# Altium integrated library Motorola DSP 16-Bit.IntLib: 19 symbols (part 2 of 2)
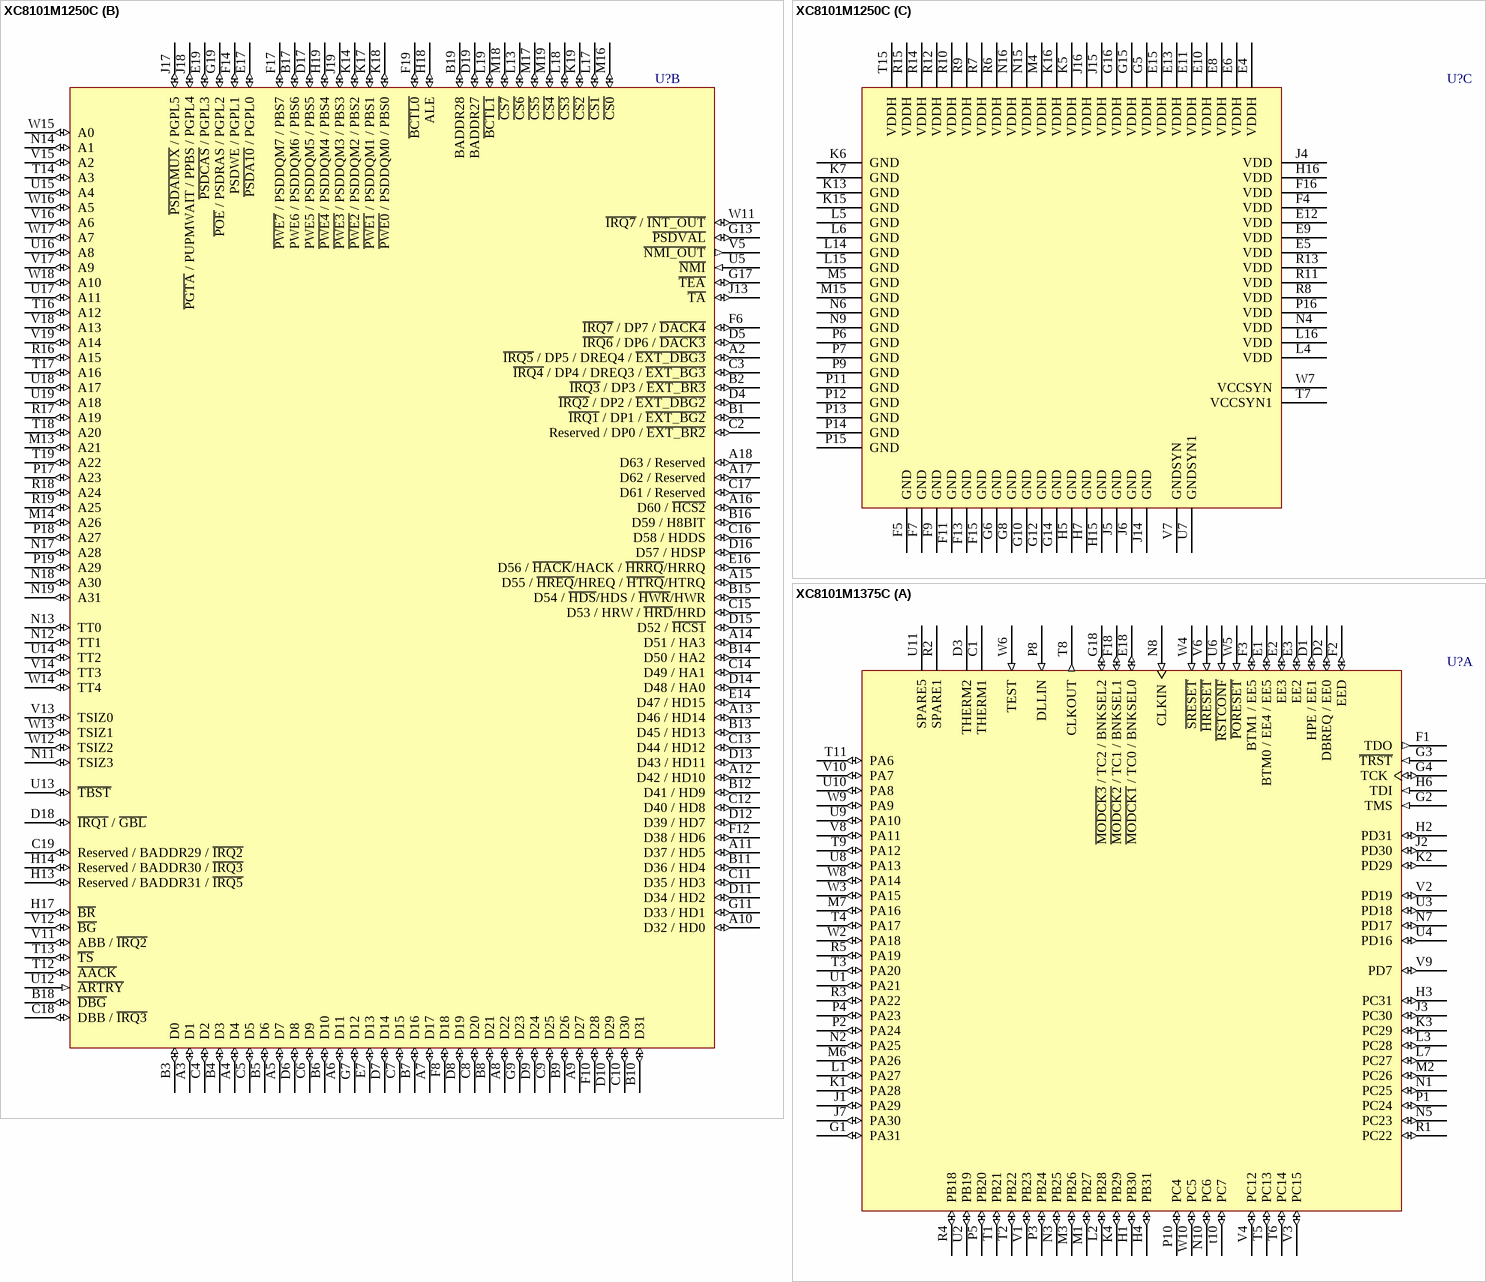
[diagram p12: symbols XC8101M1250C to XC8101M1375C]

## XC8101M1250C
designator U?
MSC8100 Family Very High Performance 16-Bit Fixed Point DSP; PinDescriptions: Alternate pin usages may be listed in Pin Description fields.; Published: 21-Mar-2003; LatestRevisionDate: 13-Apr-2006; LatestRevisionNote: IPC-7351 Footprint Added.; DatasheetVersion: Rev. 4, Aug-2002; PackageVersion: rev4, Aug-2002; PackageReference: 1169-01; Publisher: Altium Limited; PackageDescription: 332-Ball FC-P Ball Grid Array 0.8 mm Pitch; ComponentLink1Description: Manufacturer Link; ComponentLink1URL: http://www.motorola.com/
footprint 1169-01 (BGA, 332-Leads, Body 17x17mm, Pitch 0.8mm)
3D model XC8101-1169-01 (332-Ball FC-P Ball Grid Array 0.8 mm Pitch)
part A pins: C1 THERM1, D1 HPE / EE1 (io), D2 DBREQ / EE0 (io), D3 THERM2, E1 BTM0 / EE4 / EE5 (io), E2 EE3 (io), E3 EE2 (io), E18 ~{MODCK1} / TC0 / BNKSEL0 (io), F1 TDO (out), F2 EED (io), F3 BTM1 / EE5 (io), F18 ~{MODCK2} / TC1 / BNKSEL1 (io), G1 PA31 (io) "/ FCC1:UTOPIA8:TXENB / FCC1:MII:COL", G2 TMS (in), G3 ~{TRST} (in), G4 TCK (io), G18 ~{MODCK3} / TC2 / BNKSEL2 (io), H1 PB30 (io) "/ FCC2:MII:RX_DV / SCC2:TXD / TDBM2:L1RXD", H2 PD31 (io) "/ SCC1:RXD / DRACK1 / DONE1", H3 PC31 (io) "/ BRG1O / CLK1 / TGATE1", H4 PB31 (io) "/ FCC2:MII:TX_ER / SCC2:RXD / TDMB2:L1TXD", H6 TDI (in), J1 PA29 (io) "/ FCC1:UTOPIA8:TXSOC / FCC1:MII:TX_ER", J2 PD30 (io) "/ SCC1:TXD / DMA:DRACK2/DONE2", J3 PC30 (io) "/ EXT1 / BRG2O / CLK2 / TOUT1", J7 PA30 (io) "/ FCC1:UTOPIA8:TXCLAV / FCC1:UTOPIA8:TXCLAV0 / FCC1:MII:CRS / FCC1:HDLC and transparent:RTS", K1 PA28 (io) "/ FCC1:UTOPIA8:RXENB / FCC1:MII:TX_EN", K2 PD29 (io) "/ FCC1:UTOPIA8:RXADDR3 / FCC1:UTOPIA8:RXCLAV2 / SCC1:RTS/TENA", K3 PC29 (io) "/ SCC1:CTS / SCC1:CLSN / BRG3O / CLK3 / TIN2", K4 PB29 (io) "/ FCC2:MII:TX_EN / TDMB2:L1RSYNC", L1 PA27 (io) "/ FCC1:UTOPIA8:RXSOC / FCC1:MII:RX_DV", L2 PB28 (io) "/ FCC2:RX_ER / FCC2:HDLC:RTS / SCC2:RTS/TENA / TDMB2:L1TSYNC", L3 PC28 (io) "/ SCC2:CTS/CLSN / BRG4O / CLK4 / TIN1/TOUT2", L7 PC27 (io) "/ CLK5 / BRG5O / TGATE2", M1 PB27 (io) "/ FCC2:MII:COL / TDMC2:L1TXD", M2 PC26 (io) "/ TMCLK / BRG6O / CLK6 / TOUT3", M3 PB26 (io) "/ FCC2:MII:CRS / TDMC2:L1RXD", M6 PA26 (io) "/ FCC1:UTOPIA8:RXCLAV / FCC1:UTOPIA8:RXCLAV0 / FCC1:MII:RX_ER", M7 PA16 (io) "/ FCC1:UTOPIA8:RXD6 / FCC1:MII and HDLC nibble:RXD1", N1 PC25 (io) "/ DMA:DACK2 / BRG7O / CLK7 / TIN4", N2 PA25 (io) "/ FCC1:UTOPIA8:TXD0 / SDMA:MSNUM0", N3 PB25 (io) "/ FCC2:MII and HDLC nibble:TXD3 / TDMA1:nibble:L1TXD3 / TDMC2:L1TSYNC/GRANT", N5 PC23 (io) "/ EXT2 / DMA:DACK1 / CLK9", N7 PD17 (io) "/ FCC1:UTOPIA8:RXPRTY / SPI:SPIMOSI / BRG2O", N8 CLKIN (in), N10 PC6 (io) "/ FCC1:UTOPIA8:RXADDR2 / FCC1:UTOPIA8:RXADDR2/RXCLAV1 / FCC1:CD / SI2:LIST2", P1 PC24 (io) "/ DMA:DREQ2 / BRG8O / CLK8 / TIN3/TOUT4", P2 PA24 (io) "/ FCC1:UTOPIA8:TXD1 / SDMA:MSNUM1", P3 PB24 (io) "/ FCC2:MII and HDLC nibble:TXD3 / TDMA1:nibble:L1RXD3 / TDMC2:L1RSYNC", P4 PA23 (io) "/ FCC1:UTOPIA8:TXD2", P5 PB20 (io) "/ FCC2:MII and HDLC nibble:RXD1 / TDMA1:nibble:L1TXD1 / TDMD2:L1RSYNC", P8 DLLIN (in), P10 PC4 (io) "/ FCC2:CD / SMC1:SMRXD / SI2:LIST4", R1 PC22 (io) "/ SI1:LIST1 / DREQ1 / CLK10", R2 SPARE1, R3 PA22 (io) "/ FCC1:UTOPIA8:TXD3", R4 PB18 (io) "/ FCC2:MII and HDLC nibble:RXD3 / I2C:SCL", R5 PA19 (io) "/ FCC1:UTOPIA8:TXD6 / FCC1:MII and HDLC nibble:TXD1", T1 PB21 (io) "/ FCC2:MII and HDLC nibble:RXD0 / FCC2:transparent and HDLC serial:RXD /TDMA1:nibble:L1TXD2 / TDMD2:L1TSYNC/GRANT", T2 PB22 (io) "/ FCC2:MII and HDLC nibble TXD0 / FCC2:transparent and HDLC serial TXD /TDMA1:nibble L1RXD1 / TDMD2:L1RXD", T3 PA20 (io) "/ FCC1:UTOPIA8 TXD5 / FCC1:MII and HDLC nibble TXD2", T4 PA17 (io) "/ FCC1:UTOPIA8 RXD7 / FCC1:MII and HDLC nibble RXD0 / FCC1:transparent and HDLC serial RXD", T5 PC13 (io) "/ FCC1:UTOPIA8:TXADDR1 / SCC2:CTS/CLSN / SI1:LIST4", T6 PC14 (io) "/ FCC1:UTOPIA8:RXADDR0 / SCC1:CD/RENA / SI1:LIST2", T8 CLKOUT (out), T9 PA12 (io) "/ FCC1:UTOPIA8:RXD2 / SDMA:MSNUM3", t10 PC7 (io) "/ FCC1:UTOPIA8:TXADDR2 / FCC1:UTOPIA8:TXADDR2/TXCLAV1 / FCC1:CTS / SI1:LIST1", T11 PA6 (io) "/ TDMA1:L2RSYNC", U1 PA21 (io) "/ FCC1:TXD4 / FCC1:MII and HDLC nibble TXD3", U2 PB19 (io) "/ FCC2:MII and HDLC nibble RXD2 / I2C:SDA", U3 PD18 (io) "/ FCC1:UTOPIA8:RXADDR4 / FCC1:UTOPIA8:RXCLAV3 / SPI:SPICLK", U4 PD16 (io) "/ FCC1:UTOPIA8:TXPRTY / SPI:SPIMISO", U6 ~{RSTCONF} (in), U8 PA13 (io) "/ FCC1:UTOPIA8:RXD3 / SDMA:MSNUM2", U9 PA10 (io) "/ FCC1:UTOPIA8:RXD0 / SDMA:MSNUM5", U10 PA8 (io) "/ SMC2:SMRXD / TDMA1:serial L1RXD / TDMA1:nibble L1RXD0", U11 SPARE5, V1 PB23 (io) "/ FCC2:MII and HDLC nibble:TXD1 / TDMA1:nibble:L1RXD2 / TDMD2:L1TXD", V2 PD19 (io) "/ FCC1:UTOPIA8:TXADDR4 / FCC1:UTOPIA:TXCLAV3 / SPI:SPISEL / BRG1O", V3 PC15 (io) "/ FCC1:UTOPIA8:TXADDR0 / SCC1:CTS/CLSN / SMC2:SMTXD", V4 PC12 (io) "/ FCC1:UTOPIA8:RXADDR1 / SCC2:CD/RENA / SI1:LIST3", V6 ~{HRESET} (in), V8 PA11 (io) "/ FCC1:UTOPIA8:RXD1 / SDMA:MSNUM4", V9 PD7 (io) "/ FCC1:UTOPIA8:TXADDR3 / FCC1:UTOPIA8:TXCLAV2 / SMC1:SMSYN", V10 PA7 (io) "/ SMC2:SMSYN / TDMA1:L1TSYNC/GRANT", W2 PA18 (io) "/ FCC1:UTOPIA8:TXD7 / FCC1:MII and HDLC nibble:TXD0 / FCC1:transparent and HDLC serial:TXD", W3 PA15 (io) "/ FCC1:UTOPIA8:RXD5 / FCC1:MII and HDLC nibble:RXD2", W4 ~{SRESET} (in), W5 ~{PORESET} (in), W6 TEST (in), W8 PA14 (io) "/ FCC1:UTOPIA8 RXD4 / FCC1:MII and HDLC nibble:RXD3", W9 PA9 (io) "/ SMC2:SMTXD / TDMA1:serial:L1TXD /TDMA1:nibble:L1TXD0", W10 PC5 (io) "/ FCC2:CTS / SMC1:SMTXD / SI2:LIST3"
part B pins: A2 ~{IRQ5} / DP5 / DREQ4 / ~{EXT_DBG3} (io), A3 D1 (io), A4 D4 (io), A5 D7 (io), A6 D11 (io), A7 D17 (io), A8 D22 (io), A9 D27 (io), A10 D32 / HD0 (io), A11 D37 / HD5 (io), A12 D42 / HD10 (io), A13 D46 / HD14 (io), A14 D51 / HA3 (io), A15 D55 / ~{HREQ}/HREQ / ~{HTRQ}/HTRQ (io), A16 D60 / ~{HCS2} (io), A17 D62 / Reserved (io), A18 D63 / Reserved (io), B1 ~{IRQ1} / DP1 / ~{EXT_BG2} (io), B2 ~{IRQ3} / DP3 / ~{EXT_BR3} (io), B3 D0 (io), B4 D3 (io), B5 D6 (io), B6 D10 (io), B7 D16 (io), B8 D21 (io), B9 D26 (io), B10 D31 (io), B11 D36 / HD4 (io), B12 D41 / HD9 (io), B13 D45 / HD13 (io), B14 D50 / HA2 (io), B15 D54 / ~{HDS}/HDS / ~{HWR}/HWR (io), B16 D59 / H8BIT (io), B17 PWE6 / PSDDQM6 / PBS6 (io), B18 ~{DBG} (io), B19 BADDR28 (io), C2 Reserved / DP0 / ~{EXT_BR2} (io), C3 ~{IRQ4} / DP4 / DREQ3 / ~{EXT_BG3} (io), C4 D2 (io), C5 D5 (io), C6 D9 (io), C7 D15 (io), C8 D20 (io), C9 D25 (io), C10 D30 (io), C11 D35 / HD3 (io), C12 D40 / HD8 (io), C13 D44 / HD12 (io), C14 D49 / HA1 (io), C15 D53 / HRW / ~{HRD}/HRD (io), C16 D58 / HDDS (io), C17 D61 / Reserved (io), C18 DBB / ~{IRQ3} (io), C19 Reserved / BADDR29 / ~{IRQ2} (io), D4 ~{IRQ2} / DP2 / ~{EXT_DBG2} (io), D5 ~{IRQ6} / DP6 / ~{DACK3} (io), D6 D8 (io), D7 D14 (io), D8 D19 (io), D9 D24 (io), D10 D29 (io), D11 D34 / HD2 (io), D12 D39 / HD7 (io), D13 D43 / HD11 (io), D14 D48 / HA0 (io), D15 D52 / ~{HCS1} (io), D16 D57 / HDSP (io), D17 PWE5 / PSDDQM5 / PBS5 (io), D18 ~{IRQ1} / ~{GBL} (io), D19 BADDR27 (io), E7 D13 (io), E14 D47 / HD15 (io), E16 D56 / ~{HACK}/HACK / ~{HRRQ}/HRRQ (io), E17 ~{PSDA10} / PGPL0 (io), E19 ~{PSDCAS} / PGPL3 (io), F6 ~{IRQ7} / DP7 / ~{DACK4} (io), F8 D18 (io), F10 D28 (io), F12 D38 / HD6 (io), F14 PSDWE / PGPL1 (io), F17 ~{PWE7} / PSDDQM7 / PBS7 (io), F19 ~{BCTL0} (io), G7 D12 (io), G9 D23 (io), G11 D33 / HD1 (io), G13 ~{PSDVAL} (io), G17 ~{TEA} (io), G19 ~{POE} / PSDRAS / PGPL2 (io), H13 Reserved / BADDR31 / ~{IRQ5} (io), H14 Reserved / BADDR30 / ~{IRQ3} (io), H17 ~{BR} (io), H18 ALE (io), H19 ~{PWE4} / PSDDQM4 / PBS4 (io), J13 ~{TA} (io), J17 ~{PSDAMUX} / PGPL5 (io), J18 ~{PGTA} / PUPMWAIT / PPBS / PGPL4 (io), J19 ~{PWE3} / PSDDQM3 / PBS3 (io), K14 ~{PWE2} / PSDDQM2 / PBS2 (io), K17 ~{PWE1} / PSDDQM1 / PBS1 (io), K18 ~{PWE0} / PSDDQM0 / PBS0 (io), K19 ~{CS2} (io), L13 ~{CS6} (io), L17 ~{CS1} (io), L18 ~{CS3} (io), L19 ~{BCTL1} (io), M13 A21 (io), M14 A26 (io), M16 ~{CS0} (io), M17 ~{CS5} (io), M18 ~{CS7} (io), M19 ~{CS4} (io), N11 TSIZ3 (io), N12 TT1 (io), N13 TT0 (io), N14 A1 (io), N17 A28 (io), N18 A30 (io), N19 A31 (io), P17 A23 (io), P18 A27 (io), P19 A29 (io), R16 A15 (io), R17 A19 (io), R18 A24 (io), R19 A25 (io), T12 ~{AACK} (io), T13 ~{TS} (io), T14 A3 (io), T16 A12 (io), T17 A16 (io), T18 A20 (io), T19 A22 (io), U5 ~{NMI} (in), U12 ~{ARTRY} (in), U13 ~{TBST} (io), U14 TT2 (io), U15 A4 (io), U16 A8 (io), U17 A11 (io), U18 A17 (io), U19 A18 (io), V5 ~{NMI_OUT} (out), V11 ABB / ~{IRQ2} (io), V12 ~{BG} (io), V13 TSIZ0 (io), V14 TT3 (io), V15 A2 (io), V16 A6 (io), V17 A9 (io), V18 A13 (io), V19 A14 (io), W11 ~{IRQ7} / ~{INT_OUT} (io), W12 TSIZ2 (io), W13 TSIZ1 (io), W14 TT4 (io), W15 A0 (io), W16 A5 (io), W17 A7 (io), W18 A10 (io)
part C pins: E4 VDDH (power), E5 VDD (power), E6 VDDH (power), E8 VDDH (power), E9 VDD (power), E10 VDDH (power), E11 VDDH (power), E12 VDD (power), E13 VDDH (power), E15 VDDH (power), F4 VDD (power), F5 GND (power), F7 GND (power), F9 GND (power), F11 GND (power), F13 GND (power), F15 GND (power), F16 VDD (power), G5 VDDH (power), G6 GND (power), G8 GND (power), G10 GND (power), G12 GND (power), G14 GND (power), G15 VDDH (power), G16 VDDH (power), H5 GND (power), H7 GND (power), H15 GND (power), H16 VDD (power), J4 VDD (power), J5 GND (power), J6 GND (power), J14 GND (power), J15 VDDH (power), J16 VDDH (power), K5 VDDH (power), K6 GND (power), K7 GND (power), K13 GND (power), K15 GND (power), K16 VDDH (power), L4 VDD (power), L5 GND (power), L6 GND (power), L14 GND (power), L15 GND (power), L16 VDD (power), M4 VDDH (power), M5 GND (power), M15 GND (power), N4 VDD (power), N6 GND (power), N9 GND (power), N15 VDDH (power), N16 VDDH (power), P6 GND (power), P7 GND (power), P9 GND (power), P11 GND (power), P12 GND (power), P13 GND (power), P14 GND (power), P15 GND (power), P16 VDD (power), R6 VDDH (power), R7 VDDH (power), R8 VDD (power), R9 VDDH (power), R10 VDDH (power), R11 VDD (power), R12 VDDH (power), R13 VDD (power), R14 VDDH (power), R15 VDDH (power), T7 VCCSYN1 (power), T15 VDDH (power), U7 GNDSYN1 (power), V7 GNDSYN (power), W7 VCCSYN (power)

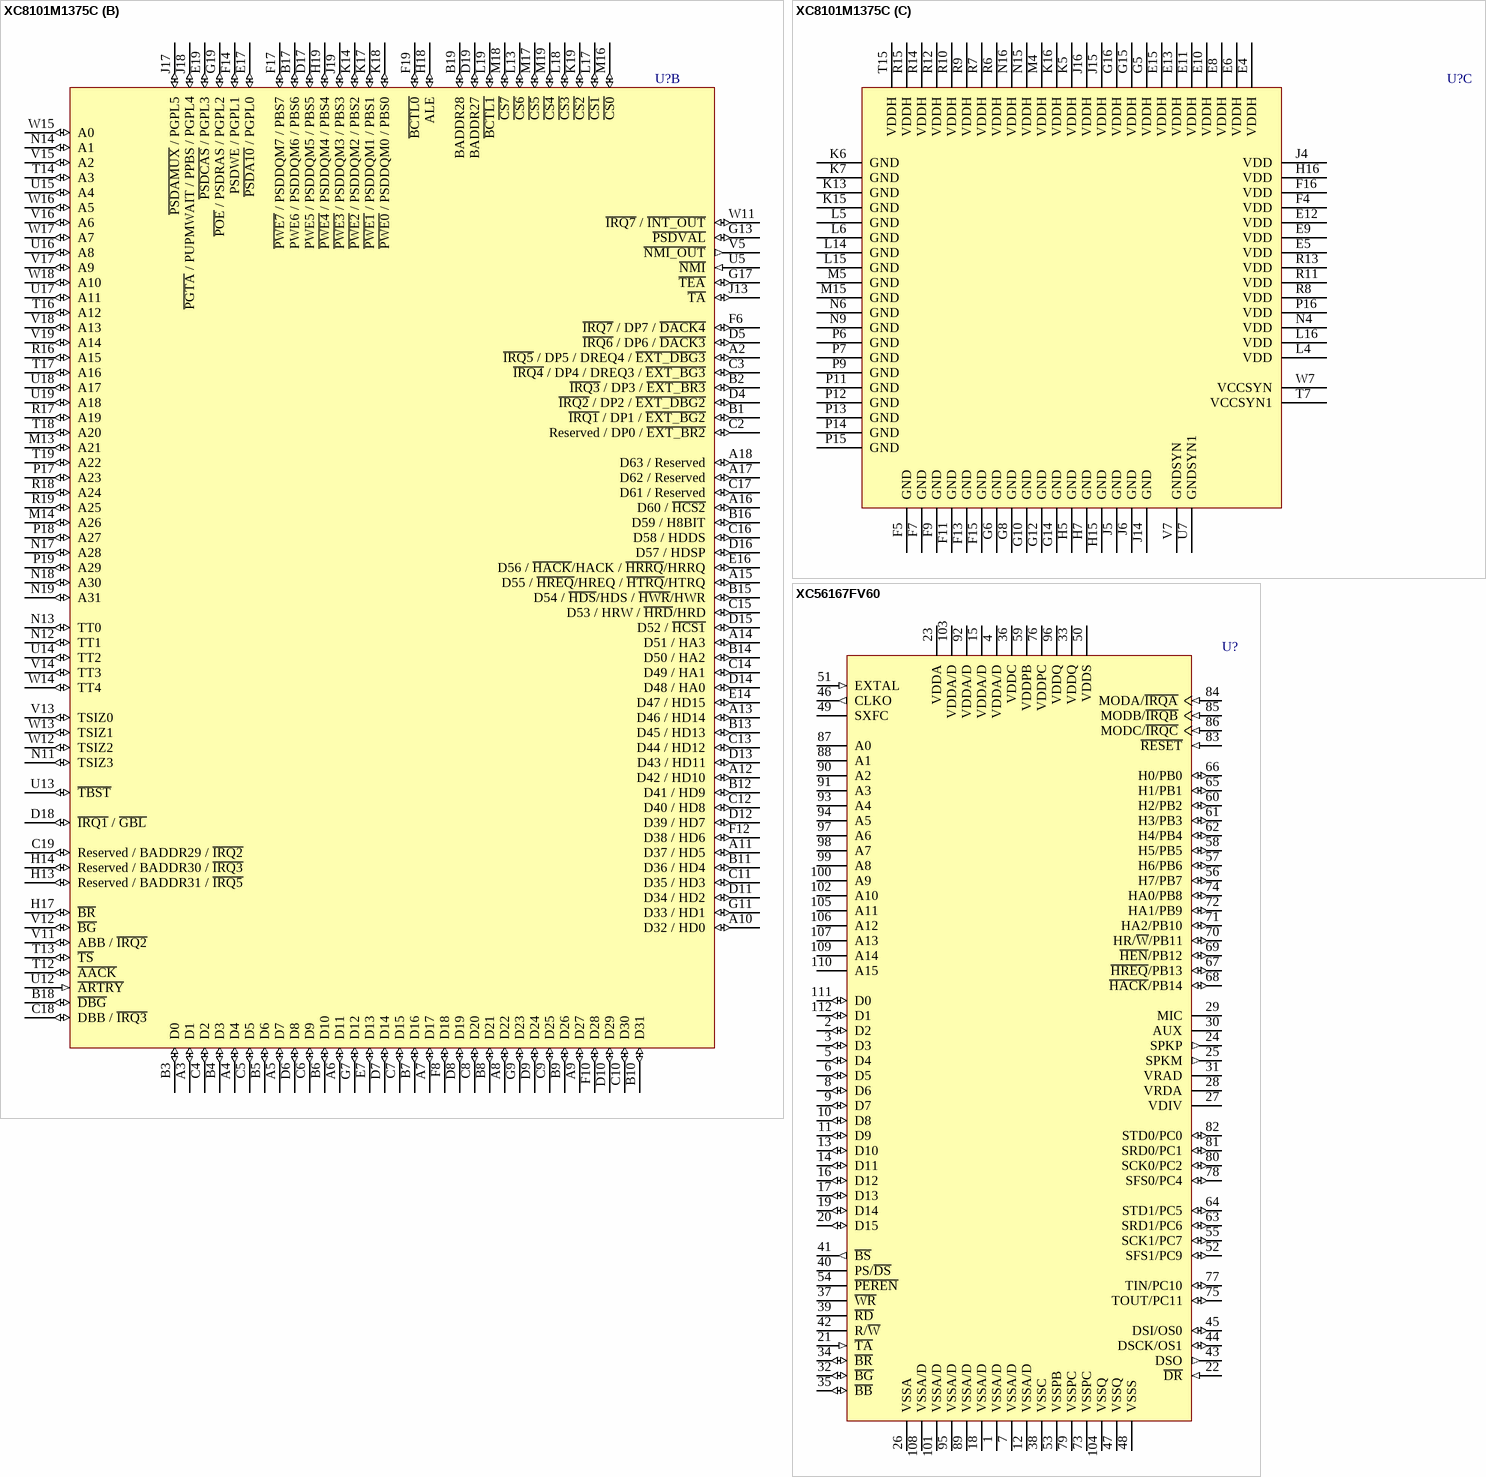
[diagram p11: symbols XC8101M1375C to XC56167FV60]

## XC8101M1375C
designator U?
MSC8100 Family Very High Performance 16-Bit Fixed Point DSP; PinDescriptions: Alternate pin usages may be listed in Pin Description fields.; Published: 21-Mar-2003; LatestRevisionDate: 13-Apr-2006; LatestRevisionNote: IPC-7351 Footprint Added.; DatasheetVersion: Rev. 4, Aug-2002; PackageVersion: rev4, Aug-2002; PackageReference: 1169-01; Publisher: Altium Limited; PackageDescription: 332-Ball FC-P Ball Grid Array 0.8 mm Pitch; ComponentLink1Description: Manufacturer Link; ComponentLink1URL: http://www.motorola.com/
footprint 1169-01 (BGA, 332-Leads, Body 17x17mm, Pitch 0.8mm)
3D model XC8101-1169-01 (332-Ball FC-P Ball Grid Array 0.8 mm Pitch)
part A pins: C1 THERM1, D1 HPE / EE1 (io), D2 DBREQ / EE0 (io), D3 THERM2, E1 BTM0 / EE4 / EE5 (io), E2 EE3 (io), E3 EE2 (io), E18 ~{MODCK1} / TC0 / BNKSEL0 (io), F1 TDO (out), F2 EED (io), F3 BTM1 / EE5 (io), F18 ~{MODCK2} / TC1 / BNKSEL1 (io), G1 PA31 (io) "/ FCC1:UTOPIA8:TXENB / FCC1:MII:COL", G2 TMS (in), G3 ~{TRST} (in), G4 TCK (io), G18 ~{MODCK3} / TC2 / BNKSEL2 (io), H1 PB30 (io) "/ FCC2:MII:RX_DV / SCC2:TXD / TDBM2:L1RXD", H2 PD31 (io) "/ SCC1:RXD / DRACK1 / DONE1", H3 PC31 (io) "/ BRG1O / CLK1 / TGATE1", H4 PB31 (io) "/ FCC2:MII:TX_ER / SCC2:RXD / TDMB2:L1TXD", H6 TDI (in), J1 PA29 (io) "/ FCC1:UTOPIA8:TXSOC / FCC1:MII:TX_ER", J2 PD30 (io) "/ SCC1:TXD / DMA:DRACK2/DONE2", J3 PC30 (io) "/ EXT1 / BRG2O / CLK2 / TOUT1", J7 PA30 (io) "/ FCC1:UTOPIA8:TXCLAV / FCC1:UTOPIA8:TXCLAV0 / FCC1:MII:CRS / FCC1:HDLC and transparent:RTS", K1 PA28 (io) "/ FCC1:UTOPIA8:RXENB / FCC1:MII:TX_EN", K2 PD29 (io) "/ FCC1:UTOPIA8:RXADDR3 / FCC1:UTOPIA8:RXCLAV2 / SCC1:RTS/TENA", K3 PC29 (io) "/ SCC1:CTS / SCC1:CLSN / BRG3O / CLK3 / TIN2", K4 PB29 (io) "/ FCC2:MII:TX_EN / TDMB2:L1RSYNC", L1 PA27 (io) "/ FCC1:UTOPIA8:RXSOC / FCC1:MII:RX_DV", L2 PB28 (io) "/ FCC2:RX_ER / FCC2:HDLC:RTS / SCC2:RTS/TENA / TDMB2:L1TSYNC", L3 PC28 (io) "/ SCC2:CTS/CLSN / BRG4O / CLK4 / TIN1/TOUT2", L7 PC27 (io) "/ CLK5 / BRG5O / TGATE2", M1 PB27 (io) "/ FCC2:MII:COL / TDMC2:L1TXD", M2 PC26 (io) "/ TMCLK / BRG6O / CLK6 / TOUT3", M3 PB26 (io) "/ FCC2:MII:CRS / TDMC2:L1RXD", M6 PA26 (io) "/ FCC1:UTOPIA8:RXCLAV / FCC1:UTOPIA8:RXCLAV0 / FCC1:MII:RX_ER", M7 PA16 (io) "/ FCC1:UTOPIA8:RXD6 / FCC1:MII and HDLC nibble:RXD1", N1 PC25 (io) "/ DMA:DACK2 / BRG7O / CLK7 / TIN4", N2 PA25 (io) "/ FCC1:UTOPIA8:TXD0 / SDMA:MSNUM0", N3 PB25 (io) "/ FCC2:MII and HDLC nibble:TXD3 / TDMA1:nibble:L1TXD3 / TDMC2:L1TSYNC/GRANT", N5 PC23 (io) "/ EXT2 / DMA:DACK1 / CLK9", N7 PD17 (io) "/ FCC1:UTOPIA8:RXPRTY / SPI:SPIMOSI / BRG2O", N8 CLKIN (in), N10 PC6 (io) "/ FCC1:UTOPIA8:RXADDR2 / FCC1:UTOPIA8:RXADDR2/RXCLAV1 / FCC1:CD / SI2:LIST2", P1 PC24 (io) "/ DMA:DREQ2 / BRG8O / CLK8 / TIN3/TOUT4", P2 PA24 (io) "/ FCC1:UTOPIA8:TXD1 / SDMA:MSNUM1", P3 PB24 (io) "/ FCC2:MII and HDLC nibble:TXD3 / TDMA1:nibble:L1RXD3 / TDMC2:L1RSYNC", P4 PA23 (io) "/ FCC1:UTOPIA8:TXD2", P5 PB20 (io) "/ FCC2:MII and HDLC nibble:RXD1 / TDMA1:nibble:L1TXD1 / TDMD2:L1RSYNC", P8 DLLIN (in), P10 PC4 (io) "/ FCC2:CD / SMC1:SMRXD / SI2:LIST4", R1 PC22 (io) "/ SI1:LIST1 / DREQ1 / CLK10", R2 SPARE1, R3 PA22 (io) "/ FCC1:UTOPIA8:TXD3", R4 PB18 (io) "/ FCC2:MII and HDLC nibble:RXD3 / I2C:SCL", R5 PA19 (io) "/ FCC1:UTOPIA8:TXD6 / FCC1:MII and HDLC nibble:TXD1", T1 PB21 (io) "/ FCC2:MII and HDLC nibble:RXD0 / FCC2:transparent and HDLC serial:RXD /TDMA1:nibble:L1TXD2 / TDMD2:L1TSYNC/GRANT", T2 PB22 (io) "/ FCC2:MII and HDLC nibble TXD0 / FCC2:transparent and HDLC serial TXD /TDMA1:nibble L1RXD1 / TDMD2:L1RXD", T3 PA20 (io) "/ FCC1:UTOPIA8 TXD5 / FCC1:MII and HDLC nibble TXD2", T4 PA17 (io) "/ FCC1:UTOPIA8 RXD7 / FCC1:MII and HDLC nibble RXD0 / FCC1:transparent and HDLC serial RXD", T5 PC13 (io) "/ FCC1:UTOPIA8:TXADDR1 / SCC2:CTS/CLSN / SI1:LIST4", T6 PC14 (io) "/ FCC1:UTOPIA8:RXADDR0 / SCC1:CD/RENA / SI1:LIST2", T8 CLKOUT (out), T9 PA12 (io) "/ FCC1:UTOPIA8:RXD2 / SDMA:MSNUM3", t10 PC7 (io) "/ FCC1:UTOPIA8:TXADDR2 / FCC1:UTOPIA8:TXADDR2/TXCLAV1 / FCC1:CTS / SI1:LIST1", T11 PA6 (io) "/ TDMA1:L2RSYNC", U1 PA21 (io) "/ FCC1:TXD4 / FCC1:MII and HDLC nibble TXD3", U2 PB19 (io) "/ FCC2:MII and HDLC nibble RXD2 / I2C:SDA", U3 PD18 (io) "/ FCC1:UTOPIA8:RXADDR4 / FCC1:UTOPIA8:RXCLAV3 / SPI:SPICLK", U4 PD16 (io) "/ FCC1:UTOPIA8:TXPRTY / SPI:SPIMISO", U6 ~{RSTCONF} (in), U8 PA13 (io) "/ FCC1:UTOPIA8:RXD3 / SDMA:MSNUM2", U9 PA10 (io) "/ FCC1:UTOPIA8:RXD0 / SDMA:MSNUM5", U10 PA8 (io) "/ SMC2:SMRXD / TDMA1:serial L1RXD / TDMA1:nibble L1RXD0", U11 SPARE5, V1 PB23 (io) "/ FCC2:MII and HDLC nibble:TXD1 / TDMA1:nibble:L1RXD2 / TDMD2:L1TXD", V2 PD19 (io) "/ FCC1:UTOPIA8:TXADDR4 / FCC1:UTOPIA:TXCLAV3 / SPI:SPISEL / BRG1O", V3 PC15 (io) "/ FCC1:UTOPIA8:TXADDR0 / SCC1:CTS/CLSN / SMC2:SMTXD", V4 PC12 (io) "/ FCC1:UTOPIA8:RXADDR1 / SCC2:CD/RENA / SI1:LIST3", V6 ~{HRESET} (in), V8 PA11 (io) "/ FCC1:UTOPIA8:RXD1 / SDMA:MSNUM4", V9 PD7 (io) "/ FCC1:UTOPIA8:TXADDR3 / FCC1:UTOPIA8:TXCLAV2 / SMC1:SMSYN", V10 PA7 (io) "/ SMC2:SMSYN / TDMA1:L1TSYNC/GRANT", W2 PA18 (io) "/ FCC1:UTOPIA8:TXD7 / FCC1:MII and HDLC nibble:TXD0 / FCC1:transparent and HDLC serial:TXD", W3 PA15 (io) "/ FCC1:UTOPIA8:RXD5 / FCC1:MII and HDLC nibble:RXD2", W4 ~{SRESET} (in), W5 ~{PORESET} (in), W6 TEST (in), W8 PA14 (io) "/ FCC1:UTOPIA8 RXD4 / FCC1:MII and HDLC nibble:RXD3", W9 PA9 (io) "/ SMC2:SMTXD / TDMA1:serial:L1TXD /TDMA1:nibble:L1TXD0", W10 PC5 (io) "/ FCC2:CTS / SMC1:SMTXD / SI2:LIST3"
part B pins: A2 ~{IRQ5} / DP5 / DREQ4 / ~{EXT_DBG3} (io), A3 D1 (io), A4 D4 (io), A5 D7 (io), A6 D11 (io), A7 D17 (io), A8 D22 (io), A9 D27 (io), A10 D32 / HD0 (io), A11 D37 / HD5 (io), A12 D42 / HD10 (io), A13 D46 / HD14 (io), A14 D51 / HA3 (io), A15 D55 / ~{HREQ}/HREQ / ~{HTRQ}/HTRQ (io), A16 D60 / ~{HCS2} (io), A17 D62 / Reserved (io), A18 D63 / Reserved (io), B1 ~{IRQ1} / DP1 / ~{EXT_BG2} (io), B2 ~{IRQ3} / DP3 / ~{EXT_BR3} (io), B3 D0 (io), B4 D3 (io), B5 D6 (io), B6 D10 (io), B7 D16 (io), B8 D21 (io), B9 D26 (io), B10 D31 (io), B11 D36 / HD4 (io), B12 D41 / HD9 (io), B13 D45 / HD13 (io), B14 D50 / HA2 (io), B15 D54 / ~{HDS}/HDS / ~{HWR}/HWR (io), B16 D59 / H8BIT (io), B17 PWE6 / PSDDQM6 / PBS6 (io), B18 ~{DBG} (io), B19 BADDR28 (io), C2 Reserved / DP0 / ~{EXT_BR2} (io), C3 ~{IRQ4} / DP4 / DREQ3 / ~{EXT_BG3} (io), C4 D2 (io), C5 D5 (io), C6 D9 (io), C7 D15 (io), C8 D20 (io), C9 D25 (io), C10 D30 (io), C11 D35 / HD3 (io), C12 D40 / HD8 (io), C13 D44 / HD12 (io), C14 D49 / HA1 (io), C15 D53 / HRW / ~{HRD}/HRD (io), C16 D58 / HDDS (io), C17 D61 / Reserved (io), C18 DBB / ~{IRQ3} (io), C19 Reserved / BADDR29 / ~{IRQ2} (io), D4 ~{IRQ2} / DP2 / ~{EXT_DBG2} (io), D5 ~{IRQ6} / DP6 / ~{DACK3} (io), D6 D8 (io), D7 D14 (io), D8 D19 (io), D9 D24 (io), D10 D29 (io), D11 D34 / HD2 (io), D12 D39 / HD7 (io), D13 D43 / HD11 (io), D14 D48 / HA0 (io), D15 D52 / ~{HCS1} (io), D16 D57 / HDSP (io), D17 PWE5 / PSDDQM5 / PBS5 (io), D18 ~{IRQ1} / ~{GBL} (io), D19 BADDR27 (io), E7 D13 (io), E14 D47 / HD15 (io), E16 D56 / ~{HACK}/HACK / ~{HRRQ}/HRRQ (io), E17 ~{PSDA10} / PGPL0 (io), E19 ~{PSDCAS} / PGPL3 (io), F6 ~{IRQ7} / DP7 / ~{DACK4} (io), F8 D18 (io), F10 D28 (io), F12 D38 / HD6 (io), F14 PSDWE / PGPL1 (io), F17 ~{PWE7} / PSDDQM7 / PBS7 (io), F19 ~{BCTL0} (io), G7 D12 (io), G9 D23 (io), G11 D33 / HD1 (io), G13 ~{PSDVAL} (io), G17 ~{TEA} (io), G19 ~{POE} / PSDRAS / PGPL2 (io), H13 Reserved / BADDR31 / ~{IRQ5} (io), H14 Reserved / BADDR30 / ~{IRQ3} (io), H17 ~{BR} (io), H18 ALE (io), H19 ~{PWE4} / PSDDQM4 / PBS4 (io), J13 ~{TA} (io), J17 ~{PSDAMUX} / PGPL5 (io), J18 ~{PGTA} / PUPMWAIT / PPBS / PGPL4 (io), J19 ~{PWE3} / PSDDQM3 / PBS3 (io), K14 ~{PWE2} / PSDDQM2 / PBS2 (io), K17 ~{PWE1} / PSDDQM1 / PBS1 (io), K18 ~{PWE0} / PSDDQM0 / PBS0 (io), K19 ~{CS2} (io), L13 ~{CS6} (io), L17 ~{CS1} (io), L18 ~{CS3} (io), L19 ~{BCTL1} (io), M13 A21 (io), M14 A26 (io), M16 ~{CS0} (io), M17 ~{CS5} (io), M18 ~{CS7} (io), M19 ~{CS4} (io), N11 TSIZ3 (io), N12 TT1 (io), N13 TT0 (io), N14 A1 (io), N17 A28 (io), N18 A30 (io), N19 A31 (io), P17 A23 (io), P18 A27 (io), P19 A29 (io), R16 A15 (io), R17 A19 (io), R18 A24 (io), R19 A25 (io), T12 ~{AACK} (io), T13 ~{TS} (io), T14 A3 (io), T16 A12 (io), T17 A16 (io), T18 A20 (io), T19 A22 (io), U5 ~{NMI} (in), U12 ~{ARTRY} (in), U13 ~{TBST} (io), U14 TT2 (io), U15 A4 (io), U16 A8 (io), U17 A11 (io), U18 A17 (io), U19 A18 (io), V5 ~{NMI_OUT} (out), V11 ABB / ~{IRQ2} (io), V12 ~{BG} (io), V13 TSIZ0 (io), V14 TT3 (io), V15 A2 (io), V16 A6 (io), V17 A9 (io), V18 A13 (io), V19 A14 (io), W11 ~{IRQ7} / ~{INT_OUT} (io), W12 TSIZ2 (io), W13 TSIZ1 (io), W14 TT4 (io), W15 A0 (io), W16 A5 (io), W17 A7 (io), W18 A10 (io)
part C pins: E4 VDDH (power), E5 VDD (power), E6 VDDH (power), E8 VDDH (power), E9 VDD (power), E10 VDDH (power), E11 VDDH (power), E12 VDD (power), E13 VDDH (power), E15 VDDH (power), F4 VDD (power), F5 GND (power), F7 GND (power), F9 GND (power), F11 GND (power), F13 GND (power), F15 GND (power), F16 VDD (power), G5 VDDH (power), G6 GND (power), G8 GND (power), G10 GND (power), G12 GND (power), G14 GND (power), G15 VDDH (power), G16 VDDH (power), H5 GND (power), H7 GND (power), H15 GND (power), H16 VDD (power), J4 VDD (power), J5 GND (power), J6 GND (power), J14 GND (power), J15 VDDH (power), J16 VDDH (power), K5 VDDH (power), K6 GND (power), K7 GND (power), K13 GND (power), K15 GND (power), K16 VDDH (power), L4 VDD (power), L5 GND (power), L6 GND (power), L14 GND (power), L15 GND (power), L16 VDD (power), M4 VDDH (power), M5 GND (power), M15 GND (power), N4 VDD (power), N6 GND (power), N9 GND (power), N15 VDDH (power), N16 VDDH (power), P6 GND (power), P7 GND (power), P9 GND (power), P11 GND (power), P12 GND (power), P13 GND (power), P14 GND (power), P15 GND (power), P16 VDD (power), R6 VDDH (power), R7 VDDH (power), R8 VDD (power), R9 VDDH (power), R10 VDDH (power), R11 VDD (power), R12 VDDH (power), R13 VDD (power), R14 VDDH (power), R15 VDDH (power), T7 VCCSYN1 (power), T15 VDDH (power), U7 GNDSYN1 (power), V7 GNDSYN (power), W7 VCCSYN (power)

## XC56167FV60
designator U?
16-Bit Digital Signal Processor; Published: 21-Mar-2003; LatestRevisionDate: 13-Apr-2006; LatestRevisionNote: IPC-7351 Footprint Added.; DatasheetVersion: Rev. 1, 1997; PackageVersion: rev3.1, Nov-2000; PackageReference: 987-01; Publisher: Altium Limited; PackageDescription: 112-Pin Thin Quad Flat Pack 0.65 mm Pitch; ComponentLink1Description: Manufacturer Link; ComponentLink1URL: http://www.motorola.com/
footprint 987-01_N (Thin QFP, 112-Leads, Body 20 x 20mm, Pitch 0.65mm, IPC Medium Density)
footprint 987-01_L (Thin QFP, 112-Leads, Body 20 x 20mm, Pitch 0.65mm, IPC High Density)
footprint 987-01_M (Thin QFP, 112-Leads, Body 20 x 20mm, Pitch 0.65mm, IPC Low Density)
3D model XC56167-987-01 (112-Pin Thin Quad Flat Pack 0.65 mm Pitch)
pins: 1 VSSA/D (power), 2 D2 (io), 3 D3 (io), 4 VDDA/D (power), 5 D4 (io), 6 D5 (io), 7 VSSA/D (power), 8 D6 (io), 9 D7 (io), 10 D8 (io), 11 D9 (io), 12 VSSA/D (power), 13 D10 (io), 14 D11 (io), 15 VDDA/D (power), 16 D12 (io), 17 D13 (io), 18 VSSA/D (power), 19 D14 (io), 20 D15 (io), 21 ~{TA} (in), 22 ~{DR} (in), 23 VDDA (power), 24 SPKP (out), 25 SPKM (out), 26 VSSA (power), 27 VDIV, 28 VRDA (hiz), 29 MIC, 30 AUX, 31 VRAD (hiz), 32 ~{BG} (io), 33 VDDQ (power), 34 ~{BR} (io), 35 ~{BB} (io), 36 VDDC (power), 37 ~{WR} (hiz), 38 VSSC (power), 39 ~{RD} (hiz), 40 PS/~{DS} (hiz), 41 ~{BS} (out), 42 R/~{W} (hiz), 43 DSO (out), 44 DSCK/OS1 (io), 45 DSI/OS0 (io), 46 CLKO (out), 47 VSSQ (power), 48 VSSS (power), 49 SXFC, 50 VDDS (power), 51 EXTAL (in), 52 SFS1/PC9 (io), 53 VSSPB (power), 54 ~{PEREN} (hiz), 55 SCK1/PC7 (io), 56 H7/PB7 (io), 57 H6/PB6 (io), 58 H5/PB5 (io), 59 VDDPB (power), 60 H2/PB2 (io), 61 H3/PB3 (io), 62 H4/PB4 (io), 63 SRD1/PC6 (io), 64 STD1/PC5 (io), 65 H1/PB1 (io), 66 H0/PB0 (io), 67 ~{HREQ}/PB13 (io), 68 ~{HACK}/PB14 (io), 69 ~{HEN}/PB12 (io), 70 HR/~{W}/PB11 (io), 71 HA2/PB10 (io), 72 HA1/PB9 (io), 73 VSSPC (power), 74 HA0/PB8 (io), 75 TOUT/PC11 (io), 76 VDDPC (power), 77 TIN/PC10 (io), 78 SFS0/PC4 (io), 79 VSSPC (power), 80 SCK0/PC2 (io), 81 SRD0/PC1 (io), 82 STD0/PC0 (io), 83 ~{RESET} (in), 84 MODA/~{IRQA} (in), 85 MODB/~{IRQB} (in), 86 MODC/~{IRQC} (in), 87 A0 (hiz), 88 A1 (hiz), 89 VSSA/D (power), 90 A2 (hiz), 91 A3 (hiz), 92 VDDA/D (power), 93 A4 (hiz), 94 A5 (hiz), 95 VSSA/D (power), 96 VDDQ (power), 97 A6 (hiz), 98 A7 (hiz), 99 A8 (hiz), 100 A9 (hiz), 101 VSSA/D (power), 102 A10 (hiz), 103 VDDA/D (power), 104 VSSQ (power), 105 A11 (hiz), 106 A12 (hiz), 107 A13 (hiz), 108 VSSA/D (power), 109 A14 (hiz), 110 A15 (hiz), 111 D0 (io), 112 D1 (io)